# EAGLE library part 61000618321 (library Wuerth_Elektronik_eiCan_Pin_&_Socked_Headers_v1.3)
WR-PHD 2.54mm SMT Pin Header, 6 Pins
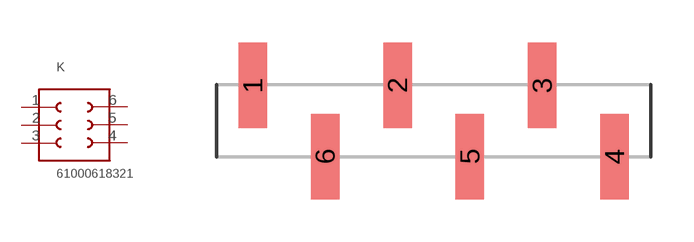
[diagram p82: symbol with the pads of 61000618321; footprint 61000618321]

Designator prefix K

## 61000618321  [61000618321]
1  1  pas
2  2  pas
3  3  pas
4  4  pas
5  5  pas
6  6  pas

## Footprint 61000618321 (pad centres in mm)
WR-PHD 2.54mm SMT Pin Header, 6 Pins
smd 1 x 3: 1 -6.35,1.25; 2 -1.27,1.25; 3 3.81,1.25; 4 6.35,-1.25; 5 1.27,-1.25; 6 -3.81,-1.25